# Altium footprint library header1x15.PcbLib: 1 footprints
Each footprint in its own frame and in the unit in brackets; x right, y up, seen from the top. Pads: shape width x height; smd on the part's side, far side on the other; paste and mask are expansions set on the pad; w line width, h text height; cw(c..) or ccw(c..) is an arc to the next point about the centre after c.
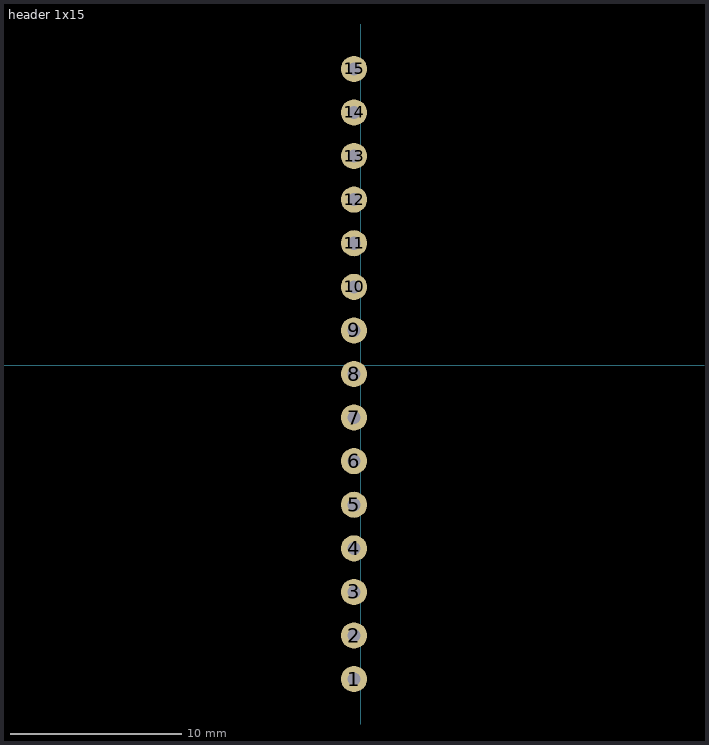
[diagram p0: the footprint, top view; thin cyan lines are the x and y axes]

## header 1x15 [mil] "2.54mm"
pads (15):
  round 60 hole 30: 1(-15,-720) 2(-15,-620) 3(-15,-520) 4(-15,-420) 5(-15,-320) 6(-15,-220) 7(-15,-120) 8(-15,-20) 9(-15,80) 10(-15,180) 11(-15,280) 12(-15,380) 13(-15,480) 14(-15,580) 15(-15,680)